# Altium footprint library 蜂鸣器 - 副本.PcbLib: 1 footprints
Each footprint in its own frame and in the unit in brackets; x right, y up, seen from the top. Pads: shape width x height; smd on the part's side, far side on the other; paste and mask are expansions set on the pad; w line width, h text height; cw(c..) or ccw(c..) is an arc to the next point about the centre after c.
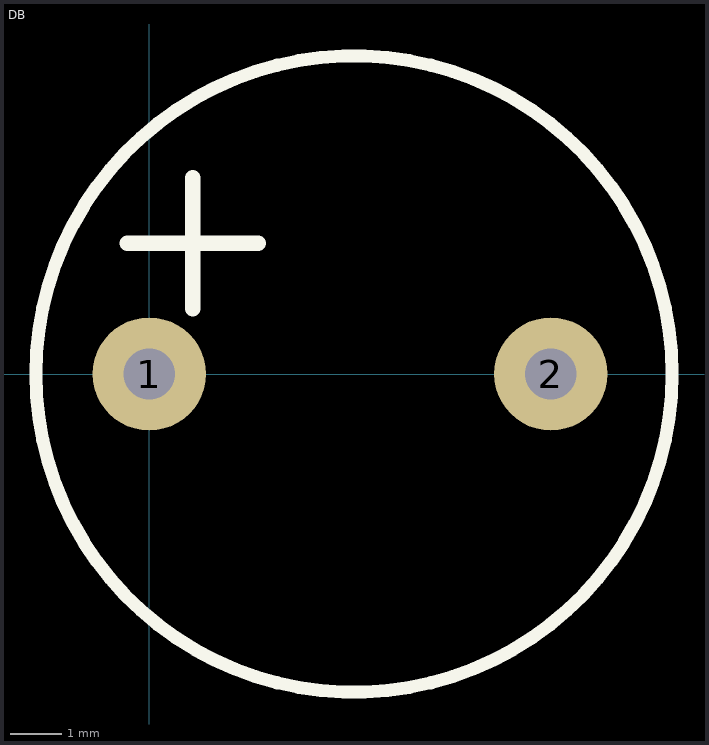
[diagram p0: the footprint, top view; thin cyan lines are the x and y axes]

## DB [mm]
pads (2):
  round 2.2 hole 1: 1(0,0) 2(7.8,0)
Top Overlay:
  circle w0.254: c3.976,0 r6.18
  lines w0.305: -0.426,2.54 2.114,2.54 ; 0.844,1.27 0.844,3.81